# EAGLE library part 74*126 (library RASEagleLib)
74*126 Quad Bus Buffer Gate With 3-State Outputs
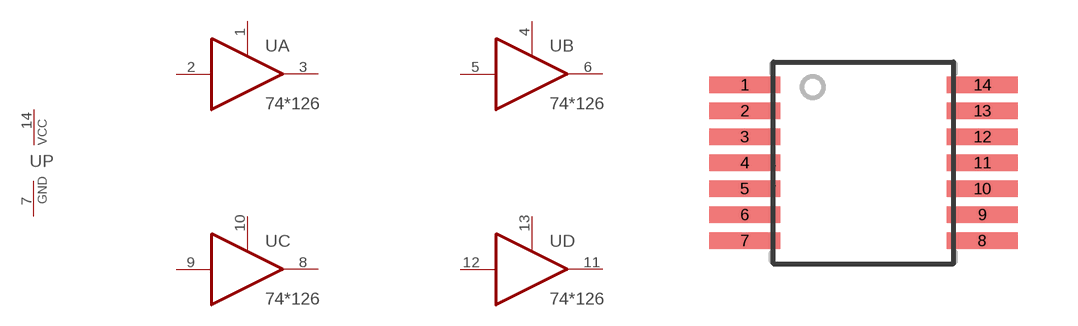
[diagram p8: symbol with the pads of TSSOP-14; footprint TSSOP-14]

Designator prefix U; gates A=74126 B=74126 C=74126 D=74126 P=PWRGND

## 74126  [TSSOP-14]
1  A:OE  in
2  A:I  in
3  A:O  out
4  B:OE  in
5  B:I  in
6  B:O  out
7  P:GND  pwr
8  C:O  out
9  C:I  in
10  C:OE  in
11  D:O  out
12  D:I  in
13  D:OE  in
14  P:VCC  pwr

## Footprint TSSOP-14 (pad centres in mm)
smd 1.78 x 0.42: 1 -2.97,1.95; 2 -2.97,1.3; 3 -2.97,0.65; 4 -2.97,0; 5 -2.97,-0.65; 6 -2.97,-1.3; 7 -2.97,-1.95; 8 2.97,-1.95; 9 2.97,-1.3; 10 2.97,-0.65; 11 2.97,0; 12 2.97,0.65; 13 2.97,1.3; 14 2.97,1.95